# EAGLE library part DIT4192-H (library Texas Instruments)
192kHz Digital Audio Transmitter Hardware Mode Source: http://focus.ti.com/lit/ds/symlink/dit4192.pdf
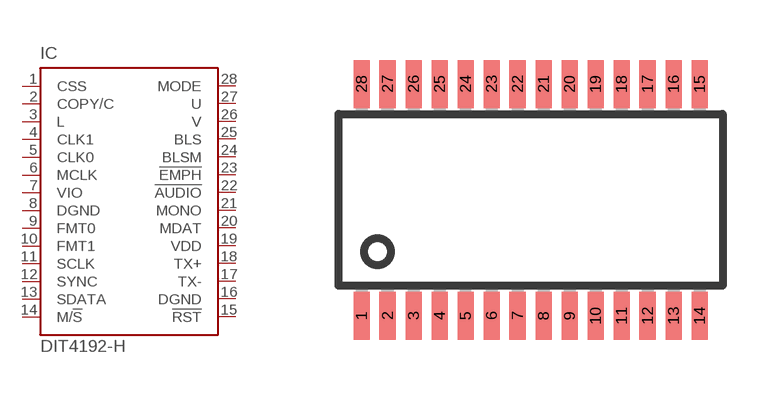
[diagram p105: symbol with the pads of PW_R-PDSO-G28; footprint PW_R-PDSO-G28]

Designator prefix IC

## DIT4192-H (MF: TEXAS INSTRUMENTS; MPN: DIT4192IPW; OC_FARNELL: 7455057; OC_NEWARK: 74C9511)  [PW_R-PDSO-G28]
1  CSS  in
2  COPY/C  in
3  L  in
4  CLK1  in
5  CLK0  in
6  MCLK  in
7  VIO  pwr
8  DGND  pwr
9  FMT0  in
10  FMT1  in
11  SCLK
12  SYNC
13  SDATA  in
14  M/!S  in
15  !RST  in
16  DGND  pwr
17  TX-  out
18  TX+  out
19  VDD  pwr
20  MDAT  in
21  MONO  in
22  !AUDIO  in
23  !EMPH  in
24  BLSM  in
25  BLS
26  V  in
27  U  in
28  MODE  in

## Footprint PW_R-PDSO-G28 (pad centres in mm)
PLASTIC SMALL-OUTLINE PACKAGE SO 28 JEDEC MO-153, PW Type Source: www.ti.com/.. slvs087l.pdf
smd 0.4 x 1.2: 1 -4.225,-2.9; 2 -3.575,-2.9; 3 -2.925,-2.9; 4 -2.275,-2.9; 5 -1.625,-2.9; 6 -0.975,-2.9; 7 -0.325,-2.9; 8 0.325,-2.9; 9 0.975,-2.9; 10 1.625,-2.9; 11 2.275,-2.9; 12 2.925,-2.9; 13 3.575,-2.9; 14 4.225,-2.9; 15 4.225,2.9; 16 3.575,2.9; 17 2.925,2.9; 18 2.275,2.9; 19 1.625,2.9; 20 0.975,2.9; 21 0.325,2.9; 22 -0.325,2.9; 23 -0.975,2.9; 24 -1.625,2.9; 25 -2.275,2.9; 26 -2.925,2.9; 27 -3.575,2.9; 28 -4.225,2.9